# EAGLE library part A-UNO_ISP (library digital-toy)
Arduino/Genuino Uno with ISP connector
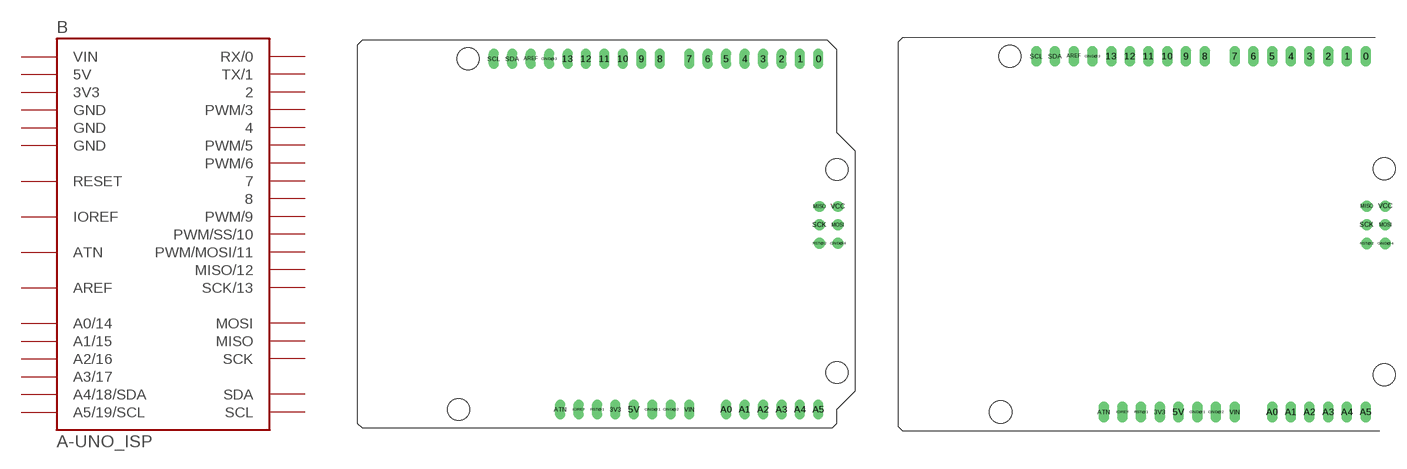
[diagram p50: symbol with the pads of A-UNO-ISP; footprints A-UNO-ISP, A-UNO-ISP_LEFT]

Designator prefix B

## A-UNO_ISP  [A-UNO-ISP]
0  RX/0
1  TX/1
2  2
3  PWM/3
3V3  3V3  pwr
4  4
5  PWM/5
5V  5V  pwr
6  PWM/6
7  7
8  8
9  PWM/9
10  PWM/SS/10
11  PWM/MOSI/11
12  MISO/12
13  SCK/13
A0  A0/14
A1  A1/15
A2  A2/16
A3  A3/17
A4  A4/18/SDA
A5  A5/19/SCL
AREF  AREF  pwr
ATN  ATN
GND@1  GND  pwr
GND@2  GND  pwr
GND@3  GND  pwr
IOREF  IOREF  pwr
MISO  MISO
MOSI  MOSI
RST@1  RESET
SCK  SCK
SCL  SCL
SDA  SDA
VIN  VIN  pwr

## A-UNO_ISP-L  [A-UNO-ISP_LEFT]
Pads as for A-UNO-ISP

## A-UNO_ISP-TP  [A-UNO-ISP_TP]
Pads as for A-UNO-ISP

## A-UNO_ISP-CON  [A-UNO-ISP_CON]
Pads as for A-UNO-ISP

## A-UNO_ISP-WITHOUT-HOLES  [A-UNO-ISP_CON-WITHOUT-HOLES]
Pads as for A-UNO-ISP

## A-UNO_ISP-BRD-WITHOUT-HOLES  [A-UNO-ISP_CON-WITHOUT-HOLES]
0  RX/0
1  TX/1
2  2
3  PWM/3
3V3  3V3  pwr
4  4
5  PWM/5
5V  5V  pwr
6  PWM/6
7  7
8  8
9  PWM/9
10  PWM/SS/10
11  PWM/MOSI/11
12  MISO/12
13  SCK/13
A0  A0/14
A1  A1/15
A2  A2/16
A3  A3/17
A4  A4/18/SDA
A5  A5/19/SCL
AREF  AREF  pwr
ATN  ATN
GND@1  GND  pwr
GND@2  GND  pwr
GND@3  GND  pwr
GND@4  GND  pwr
IOREF  IOREF  pwr
MISO  MISO
MOSI  MOSI
RST@1  RESET
RST@2  RESET
SCK  SCK
SCL  SCL
SDA  SDA
VCC  5V  pwr
VIN  VIN  pwr

## A-UNO_ISP-BRD  [A-UNO-ISP]
Pads as for A-UNO-ISP_CON-WITHOUT-HOLES

## Footprint A-UNO-ISP (pad centres in mm)
20 Dimension
drill 0.9 pad 1.2 long: 0 63.5,50.8; 1 60.96,50.8; 2 58.42,50.8; 3 55.88,50.8; 3V3 35.56,2.54; 4 53.34,50.8; 5 50.8,50.8; 5V 38.1,2.54; 6 48.26,50.8; 7 45.72,50.8; 8 41.656,50.8; 9 39.116,50.8; 10 36.576,50.8; 11 34.036,50.8; 12 31.496,50.8; 13 28.956,50.8; A0 50.8,2.54; A1 53.34,2.54; A2 55.88,2.54; A3 58.42,2.54; A4 60.96,2.54; A5 63.5,2.54; AREF 23.876,50.8; ATN 27.94,2.54; GND@1 40.64,2.54; GND@2 43.18,2.54; GND@3 26.416,50.8; IOREF 30.48,2.54; RST@1 33.02,2.54; SCL 18.796,50.8; SDA 21.336,50.8; VIN 45.72,2.54
drill 0.9 pad 1.5: GND@4 66.167,25.4; MISO 63.627,30.48; MOSI 66.167,27.94; RST@2 63.627,25.4; SCK 63.627,27.94; VCC 66.167,30.48
hole 3 at 66.04,35.56
hole 3 at 66.04,7.62
hole 3 at 15.24,50.8
hole 3 at 13.97,2.54

## Footprint A-UNO-ISP_LEFT (pad centres in mm)
20 Dimension on the left
drill 0.9 pad 1.2 long: 0 63.5,50.8; 1 60.96,50.8; 2 58.42,50.8; 3 55.88,50.8; 3V3 35.56,2.54; 4 53.34,50.8; 5 50.8,50.8; 5V 38.1,2.54; 6 48.26,50.8; 7 45.72,50.8; 8 41.656,50.8; 9 39.116,50.8; 10 36.576,50.8; 11 34.036,50.8; 12 31.496,50.8; 13 28.956,50.8; A0 50.8,2.54; A1 53.34,2.54; A2 55.88,2.54; A3 58.42,2.54; A4 60.96,2.54; A5 63.5,2.54; AREF 23.876,50.8; ATN 27.94,2.54; GND@1 40.64,2.54; GND@2 43.18,2.54; GND@3 26.416,50.8; IOREF 30.48,2.54; RST@1 33.02,2.54; SCL 18.796,50.8; SDA 21.336,50.8; VIN 45.72,2.54
drill 0.9 pad 1.5: GND@4 66.167,25.4; MISO 63.627,30.48; MOSI 66.167,27.94; RST@2 63.627,25.4; SCK 63.627,27.94; VCC 66.167,30.48
hole 3 at 66.04,35.56
hole 3 at 66.04,7.62
hole 3 at 15.24,50.8
hole 3 at 13.97,2.54

## Footprint A-UNO-ISP_TP (pad centres in mm)
21 tPlace
drill 0.9 pad 1.2 long: 0 63.5,50.8; 1 60.96,50.8; 2 58.42,50.8; 3 55.88,50.8; 3V3 35.56,2.54; 4 53.34,50.8; 5 50.8,50.8; 5V 38.1,2.54; 6 48.26,50.8; 7 45.72,50.8; 8 41.656,50.8; 9 39.116,50.8; 10 36.576,50.8; 11 34.036,50.8; 12 31.496,50.8; 13 28.956,50.8; A0 50.8,2.54; A1 53.34,2.54; A2 55.88,2.54; A3 58.42,2.54; A4 60.96,2.54; A5 63.5,2.54; AREF 23.876,50.8; ATN 27.94,2.54; GND@1 40.64,2.54; GND@2 43.18,2.54; GND@3 26.416,50.8; IOREF 30.48,2.54; RST@1 33.02,2.54; SCL 18.796,50.8; SDA 21.336,50.8; VIN 45.72,2.54
drill 0.9 pad 1.5: GND@4 66.167,25.4; MISO 63.627,30.48; MOSI 66.167,27.94; RST@2 63.627,25.4; SCK 63.627,27.94; VCC 66.167,30.48

## Footprint A-UNO-ISP_CON (pad centres in mm)
only connectors + holes
drill 0.9 pad 1.5: 0 63.5,50.8; 1 60.96,50.8; 2 58.42,50.8; 3 55.88,50.8; 3V3 35.56,2.54; 4 53.34,50.8; 5 50.8,50.8; 5V 38.1,2.54; 6 48.26,50.8; 7 45.72,50.8; 8 41.656,50.8; 9 39.116,50.8; 10 36.576,50.8; 11 34.036,50.8; 12 31.496,50.8; 13 28.956,50.8; A0 50.8,2.54; A1 53.34,2.54; A2 55.88,2.54; A3 58.42,2.54; A4 60.96,2.54; A5 63.5,2.54; AREF 23.876,50.8; ATN 27.94,2.54; GND@1 40.64,2.54; GND@2 43.18,2.54; GND@3 26.416,50.8; GND@4 66.167,25.4; IOREF 30.48,2.54; MISO 63.627,30.48; MOSI 66.167,27.94; RST@1 33.02,2.54; RST@2 63.627,25.4; SCK 63.627,27.94; SCL 18.796,50.8; SDA 21.336,50.8; VCC 66.167,30.48; VIN 45.72,2.54
hole 3 at 66.04,35.56
hole 3 at 66.04,7.62
hole 3 at 15.24,50.8
hole 3 at 13.97,2.54

## Footprint A-UNO-ISP_CON-WITHOUT-HOLES (pad centres in mm)
only connectors
drill 0.9 pad 1.5: 0 63.5,50.8; 1 60.96,50.8; 2 58.42,50.8; 3 55.88,50.8; 3V3 35.56,2.54; 4 53.34,50.8; 5 50.8,50.8; 5V 38.1,2.54; 6 48.26,50.8; 7 45.72,50.8; 8 41.656,50.8; 9 39.116,50.8; 10 36.576,50.8; 11 34.036,50.8; 12 31.496,50.8; 13 28.956,50.8; A0 50.8,2.54; A1 53.34,2.54; A2 55.88,2.54; A3 58.42,2.54; A4 60.96,2.54; A5 63.5,2.54; AREF 23.876,50.8; ATN 27.94,2.54; GND@1 40.64,2.54; GND@2 43.18,2.54; GND@3 26.416,50.8; GND@4 66.167,25.4; IOREF 30.48,2.54; MISO 63.627,30.48; MOSI 66.167,27.94; RST@1 33.02,2.54; RST@2 63.627,25.4; SCK 63.627,27.94; SCL 18.796,50.8; SDA 21.336,50.8; VCC 66.167,30.48; VIN 45.72,2.54